# Altium schematic symbol library TPS51396ARJER.SchLib: 1 symbol
Pins are listed as number, name and electrical type; pins without a type are passive.

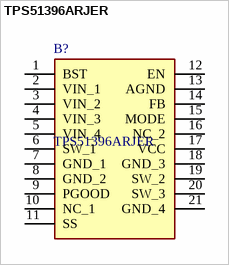
[diagram p0: symbol TPS51396ARJER]

## TPS51396ARJER
designator B?
Buck Switching Regulator IC Positive Adjustable 0.6V 1 Output 8A 20-VFQFN Exposed Pad; Manufacturer_Name: Texas Instruments; Geometry.Height: 1mm; Mouser Part Number: 595-TPS51396ARJER; Mouser Price/Stock: https://www.mouser.co.uk/ProductDetail/Texas-Instruments/TPS51396ARJER?qs=GBLSl2AkirtKr8QWcQ0Vig%3D%3D; Manufacturer_Part_Number: TPS51396ARJER; Datasheet Link: https://www.ti.com/lit/ds/symlink/tps51396a.pdf?HQS=dis-mous-null-mousermode-dsf-pf-null-wwe&ts=1662566370253&ref_url=https%253A%252F%252Fwww.mouser.in%252F
footprint TPS51396ARJER
pins: 1 BST, 2 VIN_1, 3 VIN_2, 4 VIN_3, 5 VIN_4, 6 SW_1, 7 GND_1, 8 GND_2, 9 PGOOD, 10 NC_1, 11 SS, 12 EN, 13 AGND, 14 FB, 15 MODE, 16 NC_2, 17 VCC, 18 GND_3, 19 SW_2, 20 SW_3, 21 GND_4